# EAGLE library part HFA3134 (library meng)
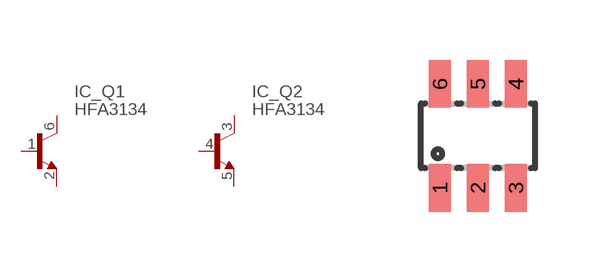
[diagram p31: symbol with the pads of SOT23-6L; footprint SOT23-6L]

Designator prefix IC; gates _Q1=NPN _Q2=NPN

## HFA3134 (VALUE: HFA3134)  [SOT23-6L]
1  _Q1:B  pas
2  _Q1:E  pas
3  _Q2:C  pas
4  _Q2:B  pas
5  _Q2:E  pas
6  _Q1:C  pas

## Footprint SOT23-6L (pad centres in mm)
Small Outline Transistor
smd 0.55 x 1.2: 1 -0.95,-1.3; 2 0,-1.3; 3 0.95,-1.3; 4 0.95,1.3; 5 0,1.3; 6 -0.95,1.3